# EAGLE library part CY7C68013-56 (library IC)
Cypress EZ-USB FX2 USB Microcontroller High-speed USB peripheral controller
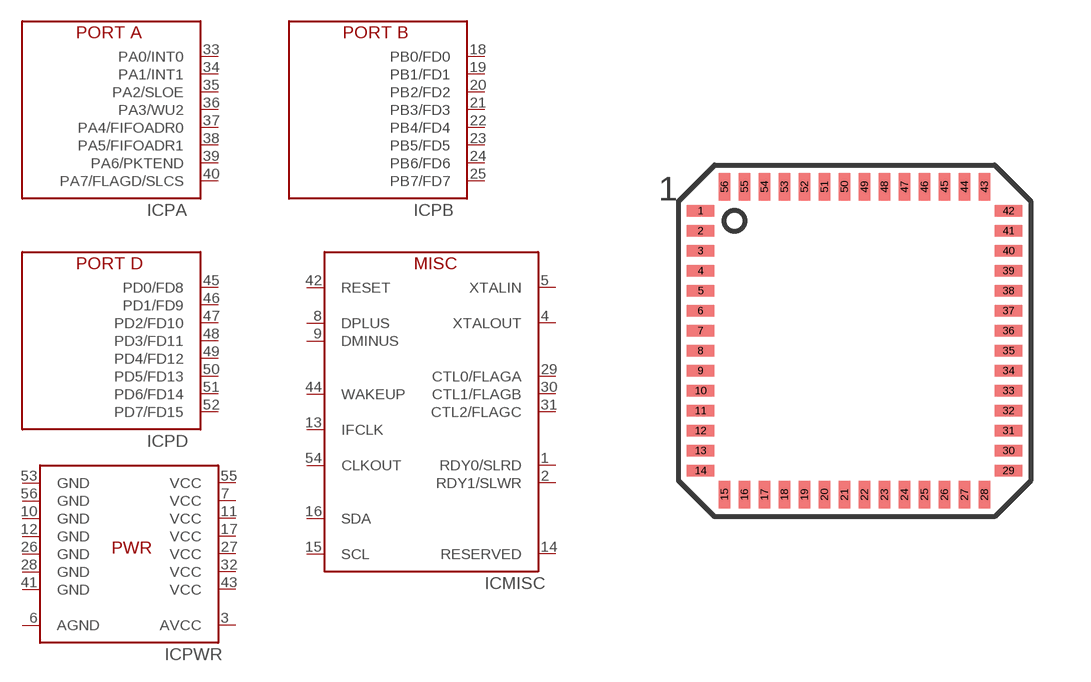
[diagram p45: symbol with the pads of QFN-56; footprint QFN-56]

Designator prefix IC; gates PA=CY7C68013-PA PB=CY7C68013-PB PD=CY7C68013-PD MISC=CY7C68013-MISC PWR=CY7C68013-PWR

## CY7C68013-56  [QFN-56]
1  MISC:RDY0/SLRD
2  MISC:RDY1/SLWR
3  PWR:AVCC  pwr
4  MISC:XTALOUT
5  MISC:XTALIN
6  PWR:AGND  pwr
7  PWR:VCC  pwr
8  MISC:DPLUS
9  MISC:DMINUS
10  PWR:GND  pwr
11  PWR:VCC  pwr
12  PWR:GND  pwr
13  MISC:IFCLK
14  MISC:RESERVED
15  MISC:SCL
16  MISC:SDA
17  PWR:VCC  pwr
18  PB:PB0/FD0
19  PB:PB1/FD1
20  PB:PB2/FD2
21  PB:PB3/FD3
22  PB:PB4/FD4
23  PB:PB5/FD5
24  PB:PB6/FD6
25  PB:PB7/FD7
26  PWR:GND  pwr
27  PWR:VCC  pwr
28  PWR:GND  pwr
29  MISC:CTL0/FLAGA
30  MISC:CTL1/FLAGB
31  MISC:CTL2/FLAGC
32  PWR:VCC  pwr
33  PA:PA0/INT0
34  PA:PA1/INT1
35  PA:PA2/SLOE
36  PA:PA3/WU2
37  PA:PA4/FIFOADR0
38  PA:PA5/FIFOADR1
39  PA:PA6/PKTEND
40  PA:PA7/FLAGD/SLCS
41  PWR:GND  pwr
42  MISC:RESET
43  PWR:VCC  pwr
44  MISC:WAKEUP
45  PD:PD0/FD8
46  PD:PD1/FD9
47  PD:PD2/FD10
48  PD:PD3/FD11
49  PD:PD4/FD12
50  PD:PD5/FD13
51  PD:PD6/FD14
52  PD:PD7/FD15
53  PWR:GND  pwr
54  MISC:CLKOUT
55  PWR:VCC  pwr
56  PWR:GND  pwr

## Footprint QFN-56 (pad centres in mm)
smd 0.69 x 0.28: 1 -3.85,3.25; 2 -3.85,2.75; 3 -3.85,2.25; 4 -3.85,1.75; 5 -3.85,1.25; 6 -3.85,0.75; 7 -3.85,0.25; 8 -3.85,-0.25; 9 -3.85,-0.75; 10 -3.85,-1.25; 11 -3.85,-1.75; 12 -3.85,-2.25; 13 -3.85,-2.75; 14 -3.85,-3.25; 29 3.85,-3.25; 30 3.85,-2.75; 31 3.85,-2.25; 32 3.85,-1.75; 33 3.85,-1.25; 34 3.85,-0.75; 35 3.85,-0.25; 36 3.85,0.25; 37 3.85,0.75; 38 3.85,1.25; 39 3.85,1.75; 40 3.85,2.25; 41 3.85,2.75; 42 3.85,3.25
smd 0.28 x 0.69: 15 -3.25,-3.85; 16 -2.75,-3.85; 17 -2.25,-3.85; 18 -1.75,-3.85; 19 -1.25,-3.85; 20 -0.75,-3.85; 21 -0.25,-3.85; 22 0.25,-3.85; 23 0.75,-3.85; 24 1.25,-3.85; 25 1.75,-3.85; 26 2.25,-3.85; 27 2.75,-3.85; 28 3.25,-3.85; 43 3.25,3.85; 44 2.75,3.85; 45 2.25,3.85; 46 1.75,3.85; 47 1.25,3.85; 48 0.75,3.85; 49 0.25,3.85; 50 -0.25,3.85; 51 -0.75,3.85; 52 -1.25,3.85; 53 -1.75,3.85; 54 -2.25,3.85; 55 -2.75,3.85; 56 -3.25,3.85